# EAGLE library part MP1476L (library FaBo-Supply)
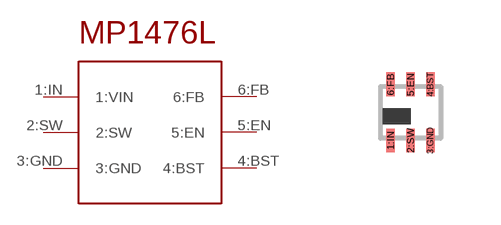
[diagram p16: symbol with the pads of SOT563; footprint SOT563]

Designator prefix -

## MP1476L  [SOT563]
1:IN  1:VIN
2:SW  2:SW
3:GND  3:GND
4:BST  4:BST
5:EN  5:EN
6:FB  6:FB

## Footprint SOT563 (pad centres in mm)
smd 0.25 x 0.6: 1:IN -0.5,-0.7; 2:SW 0,-0.7; 3:GND 0.5,-0.7; 4:BST 0.5,0.7; 5:EN 0,0.7; 6:FB -0.5,0.7